# Altium footprint library RayPCB20210502.PcbLib: 227 footprints (part 15 of 15)
Each footprint in its own frame and in the unit in brackets; x right, y up, seen from the top. Pads: shape width x height; smd on the part's side, far side on the other; paste and mask are expansions set on the pad; w line width, h text height; cw(c..) or ccw(c..) is an arc to the next point about the centre after c.
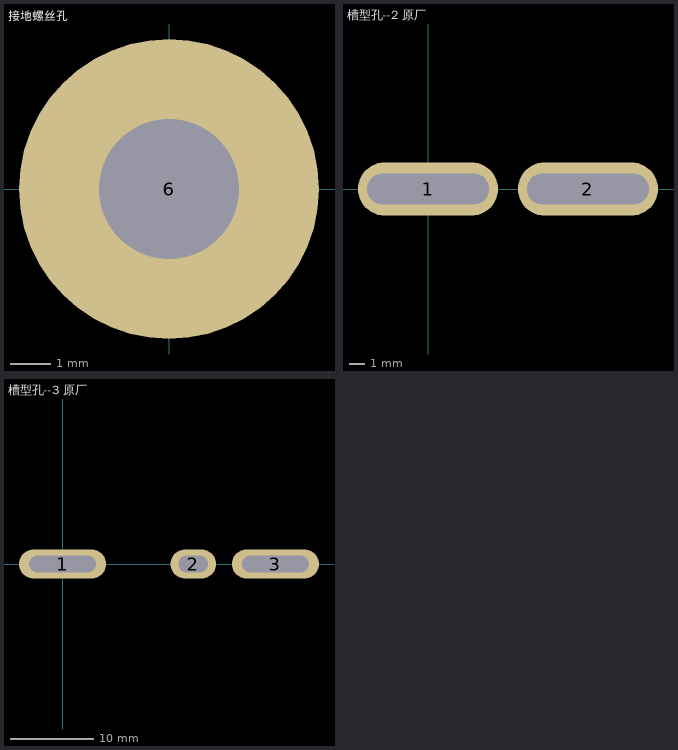
[diagram p14: the footprints below, top view; thin cyan lines are the x and y axes]

## 接地螺丝孔 [mm]
pads (1):
  round 7.5 hole 3.5: 6(0,0)

## 槽型孔--2 原厂 [mm]
pads (2):
  oval 9.2x3.5 hole 2 slot 8 at 0 deg paste+0: 1(0,0) 2(10.5,0)

## 槽型孔--3 原厂 [mm]
pads (3):
  oval 10.5x3.5 hole 2 slot 8 at 0 deg paste+0: 1(0,0) 3(25.634,0)
  oval 5.5x3.5 hole 2 slot 3.5 at 0 deg paste+0: 2(15.748,0)